# Altium schematic symbol library shutdown_circuit.SchLib: 45 symbols (part 2 of 3)
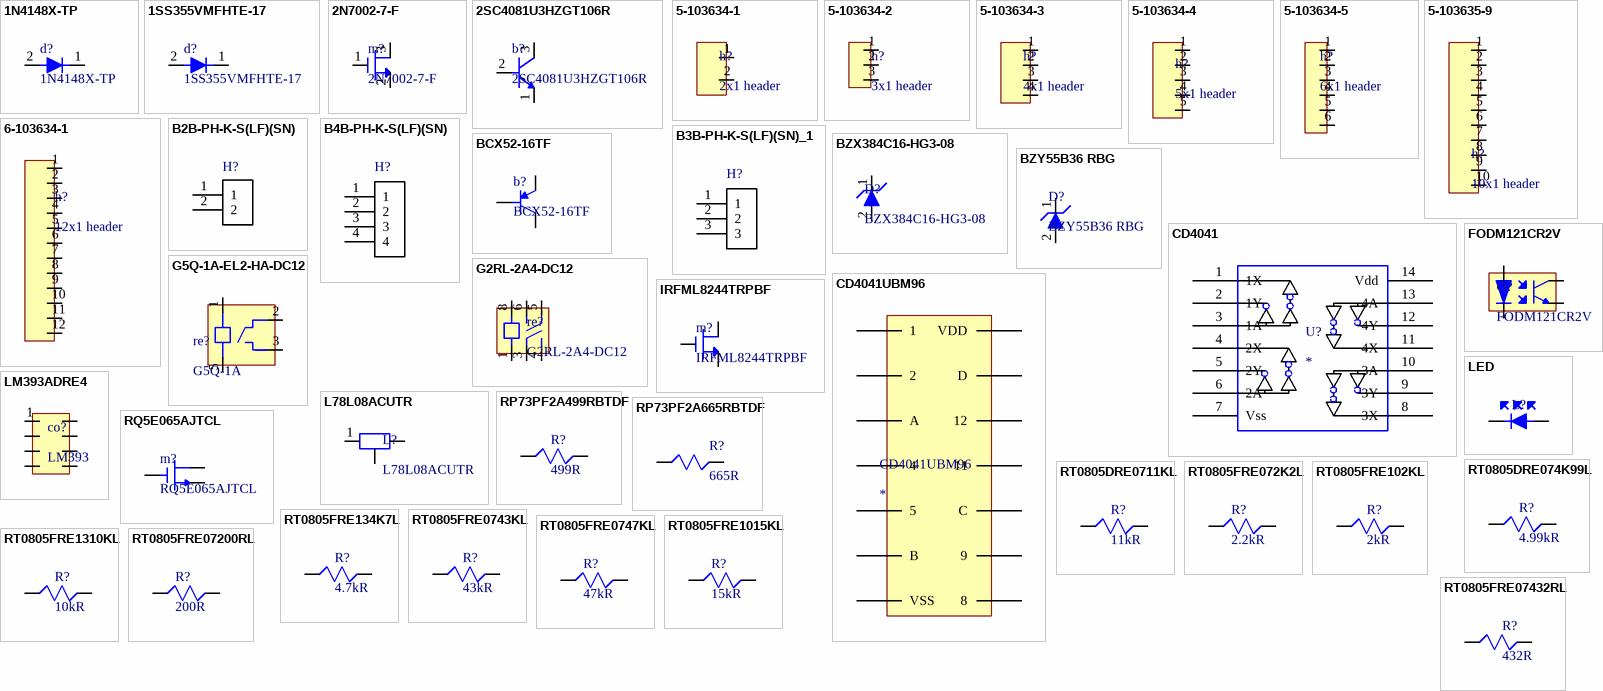
[diagram p2: symbols 1N4148X-TP to RT0805FRE07432RL]

## CD4041UBM96
designator CD4041UBM96
Buffer 4-CH Inverting/Non-Inverting Push-Pull CMOS 14-Pin SOIC-14 Tube; Manufacturer: Texas Instruments; Manufacturer Part Number: CD4041UBPW; Max Supply Voltage: 18V; Min Supply Voltage: 3V; Propagation Delay: 50ns; Number of Elements: 4; Low Level Output Current: 24mA; Number of Output Lines: 8; Number of Bits per Element: 1; High Level Output Current: -24mA; Quiescent Current: 20uA; Turn-On Delay Time: 120ns; Max Power Dissipation: 100mW; Mount: Surface Mount; Case/Package: TSSOP; Number of Pins: 14; Contact Plating: Gold; Min Operating Temperature: -55°C; Max Operating Temperature: 125°C; Packaging: Rail/Tube; Logic Function: Buffer; Package Quantity: 90; Number of Channels: 4; Number of Inputs: 4; Number of Outputs: 4; Number of Input Lines: 4; Polarity: Non-Inverting; Number of Bits: 4; Termination: SMD/SMT; Lead Free: Lead Free; REACH SVHC: No SVHC; ComponentLink1URL: https://datasheet.ciiva.com/1506/1762971-1506275.pdf?src-supplier=Element14; ComponentLink1Description: https://datasheet.ciiva.com/1506/1762971-1506275.pdf?src-supplier=Element14; ComponentLink2URL: https://datasheet.ciiva.com/46618/1836516-46618790.pdf?src-supplier=Newark; ComponentLink2Description: https://datasheet.ciiva.com/46618/1836516-46618790.pdf?src-supplier=Newark; ComponentLink3URL: https://datasheet.ciiva.com/1842/cd4041ub-1842824.pdf?src-supplier=Digi-Key; ComponentLink3Description: https://datasheet.ciiva.com/1842/cd4041ub-1842824.pdf?src-supplier=Digi-Key; ComponentLink4URL: https://octopart.com/click/track?ai=10049&ct=datasheets&sig=04d6427&at=physicalpart&sid=370&ppid=7097409&hlid=29930956&src-supplier=TI+store; ComponentLink4Description: https://octopart.com/click/track?ai=10049&ct=datasheets&sig=04d6427&at=physicalpart&sid=370&ppid=7097409&hlid=29930956&src-supplier=TI+store; ComponentLink5URL: http://datasheet.octopart.com/CD4041UBPW-Texas-Instruments-datasheet-10255163.pdf?src-supplier=Arrow+Electronics; ComponentLink5Description: http://datasheet.octopart.com/CD4041UBPW-Texas-Instruments-datasheet-10255163.pdf?src-supplier=Arrow+Electronics; ComponentLink6URL: http://datasheet.octopart.com/CD4041UBPW-Texas-Instruments-datasheet-27908145.pdf?src-supplier=TI+store; ComponentLink6Description: http://datasheet.octopart.com/CD4041UBPW-Texas-Instruments-datasheet-27908145.pdf?src-supplier=TI+store; ComponentLink7URL: http://datasheet.octopart.com/CD4041UBPW-Texas-Instruments-datasheet-149741.pdf?src-supplier=TI+store; ComponentLink7Description: http://datasheet.octopart.com/CD4041UBPW-Texas-Instruments-datasheet-149741.pdf?src-supplier=TI+store; ComponentLink8URL: http://datasheet.octopart.com/CD4041UBPW-Texas-Instruments-datasheet-10253518.pdf?src-supplier=TI+store; ComponentLink8Description: http://datasheet.octopart.com/CD4041UBPW-Texas-Instruments-datasheet-10253518.pdf?src-supplier=TI+store; ComponentLink9URL: http://sigma.octopart.com/49249819/technical_drawing/Texas-Instruments-CD4041UBPW.pdf?src-supplier=TI+store; ComponentLink9Description: http://sigma.octopart.com/49249819/technical_drawing/Texas-Instruments-CD4041UBPW.pdf?src-supplier=TI+store; ComponentLink10URL: http://datasheet.octopart.com/CD4041UBPW-Texas-Instruments-datasheet-8377696.pdf?src-supplier=Newark; ComponentLink10Description: http://datasheet.octopart.com/CD4041UBPW-Texas-Instruments-datasheet-8377696.pdf?src-supplier=Newark; ComponentLink11URL: http://datasheet.octopart.com/CD4041UBPW-Texas-Instruments-datasheet-654559.pdf?src-supplier=Newark; ComponentLink11Description: http://datasheet.octopart.com/CD4041UBPW-Texas-Instruments-datasheet-654559.pdf?src-supplier=Newark; ComponentLink12URL: http://datasheet.octopart.com/CD4041UBPW-Texas-Instruments-datasheet-8816533.pdf?src-supplier=Newark; ComponentLink12Description: http://datasheet.octopart.com/CD4041UBPW-Texas-Instruments-datasheet-8816533.pdf?src-supplier=Newark; ComponentLink13URL: http://datasheet.octopart.com/CD4041UBPW-Texas-Instruments-datasheet-11538150.pdf?src-supplier=Element14; ComponentLink13Description: http://datasheet.octopart.com/CD4041UBPW-Texas-Instruments-datasheet-11538150.pdf?src-supplier=Element14; ComponentLink14URL: http://datasheet.octopart.com/CD4041UBPW-Texas-Instruments-datasheet-21076600.pdf?src-supplier=Element14; ComponentLink14Description: http://datasheet.octopart.com/CD4041UBPW-Texas-Instruments-datasheet-21076600.pdf?src-supplier=Element14; ComponentLink15URL: http://datasheet.octopart.com/CD4041UBPW-Texas-Instruments-datasheet-47642687.pdf?src-supplier=Newark; ComponentLink15Description: http://datasheet.octopart.com/CD4041UBPW-Texas-Instruments-datasheet-47642687.pdf?src-supplier=Newark; ComponentLink16URL: http://datasheet.octopart.com/CD4041UBPW-Texas-Instruments-datasheet-102487265.pdf?src-supplier=Newark; ComponentLink16Description: http://datasheet.octopart.com/CD4041UBPW-Texas-Instruments-datasheet-102487265.pdf?src-supplier=Newark; Category: buffer; Supplier 1: Mouser; Supplier Part Number 1: 595-CD4041UBM96G4
footprint SOIC127P600X175-14N
pins: 1, 2, 3 A, 4, 5, 6 B, 7 VSS, 8, 9, 10 C, 11, 12, 13 D, 14 VDD

## FODM121CR2V
designator O?
Optocoupler DC-IN 1-CH Transistor DC-OUT 4-Pin Mini-Flat T/R; Manufacturer: ON Semiconductor; Number of Channels: 1; Collector Emitter Voltage (VCEO): 80V; Reverse Breakdown Voltage: 6V; Forward Voltage: 1.3V; Forward Current: 50mA; Max Power Dissipation: 150mW; Output Current per Channel: 80mA; Collector Emitter Saturation Voltage: 400mV; Current Transfer Ratio: 200%; catogory: optotransister; Supplier 1: Mouser; Supplier Part Number 1: 512-FODM121CR2V; Manufacturer Part Number: FODM121CR2V; Stock 1: 2249; Pricing 1: 1 = 0.58000, 10 = 0.48900, 100 = 0.29800, 1000 = 0.23000, 2500 = 0.19600, 10000 = 0.18200 (USD); Mount: Surface Mount; Case/Package: SMD/SMT; Number of Pins: 4; Contact Plating: Tin; Min Operating Temperature: -40°C; Max Operating Temperature: 110°C; Package Quantity: 2500; Packaging: Tape and Reel; Output Voltage: 80V; Max Output Voltage: 80V; Max Collector Current: 80mA; Number of Elements: 1; Power Dissipation: 150mW; Max Input Current: 50mA; ComponentLink1URL: https://datasheet.ciiva.com/2087/fodm121-2087249.pdf?src-supplier=Digi-Key; ComponentLink1Description: https://datasheet.ciiva.com/2087/fodm121-2087249.pdf?src-supplier=Digi-Key; ComponentLink2URL: https://datasheet.ciiva.com/8095/fodm2705-8095301.pdf?src-supplier=Avnet; ComponentLink2Description: https://datasheet.ciiva.com/8095/fodm2705-8095301.pdf?src-supplier=Avnet; ComponentLink3URL: http://datasheet.octopart.com/FODM121CR2V-ON-Semiconductor-datasheet-86695411.pdf?src-supplier=ON+Semiconductor; ComponentLink3Description: http://datasheet.octopart.com/FODM121CR2V-ON-Semiconductor-datasheet-86695411.pdf?src-supplier=ON+Semiconductor; ComponentLink4URL: http://datasheet.octopart.com/FODM121CR2V-Fairchild-Semiconductor-datasheet-11631601.pdf?src-supplier=_legacy+Avnet; ComponentLink4Description: http://datasheet.octopart.com/FODM121CR2V-Fairchild-Semiconductor-datasheet-11631601.pdf?src-supplier=_legacy+Avnet
footprint FODM121CR2V
pins: 1 7, 2 8, 3 9, 4 6

## G2RL-2A4-DC12
designator re?
Power Relay 12VDC 8A DPST-NO( (29mm 12.7mm 15.7mm)) THT; Manufacturer: Omron; Max Voltage Rating (AC): 440V; Max Voltage Rating (DC): 300V; Throw Configuration: DPST; Coil Resistance: 360R; Coil Current: 33.3mA; Coil Voltage (DC): 12V; Power Consumption: 400mW; Operate Time: 15ms; Coil Type: Non-Latching; Relay Type: General Purpose; Release Time: 5ms; Supplier 1: Mouser; Supplier Part Number 1: 653-G2RL-2A4-DC12; Manufacturer Part Number: G2RL-2A4-DC12; Stock 1: 117; Pricing 1: 1 = 4.17000, 25 = 3.46000, 50 = 3.30000, 100 = 3.13000, 200 = 2.82000, 500 = 2.82000 (USD); Mount: Through Hole; Case/Package: DIP; Number of Pins: 6; Weight: 12g; Contact Material: Silver; Min Operating Temperature: -40°C; Max Operating Temperature: 85°C; Packaging: Bulk; Max Current Rating: 8A; Package Quantity: 20; Contact Current Rating: 8A; Termination: PC Pin; Coil Power: 400mW; Length: 29mm; Height: 15.7mm; Width: 12.7mm; Radiation Hardening: No; ComponentLink1URL: https://datasheet.ciiva.com/43511/en-g2rl-43511039.pdf?src-supplier=Onlinecomponents.com; ComponentLink1Description: https://datasheet.ciiva.com/43511/en-g2rl-43511039.pdf?src-supplier=Onlinecomponents.com; ComponentLink2URL: https://datasheet.ciiva.com/5236/g2rl-0911-5236343.pdf?src-supplier=Mouser; ComponentLink2Description: https://datasheet.ciiva.com/5236/g2rl-0911-5236343.pdf?src-supplier=Mouser; ComponentLink3URL: https://datasheet.ciiva.com/8687/g2rl-0911-8687997.pdf?src-supplier=Avnet; ComponentLink3Description: https://datasheet.ciiva.com/8687/g2rl-0911-8687997.pdf?src-supplier=Avnet; ComponentLink4URL: http://datasheet.octopart.com/G2RL-2A4-DC12-Omron-datasheet-10910117.pdf?src-supplier=Electro+Sonic; ComponentLink4Description: http://datasheet.octopart.com/G2RL-2A4-DC12-Omron-datasheet-10910117.pdf?src-supplier=Electro+Sonic; ComponentLink5URL: http://datasheet.octopart.com/G2RL-2A4-DC12-Omron-datasheet-16972895.pdf?src-supplier=Sager+Electronics; ComponentLink5Description: http://datasheet.octopart.com/G2RL-2A4-DC12-Omron-datasheet-16972895.pdf?src-supplier=Sager+Electronics; catagory: relay
footprint G2RL-2A4-DC12
pins: 1 122, 3 119, 4 120, 5 118, 6 117, 8 121

## G5Q-1A-EL2-HA-DC12
designator re?, comment G5Q-1A
Power Relay 12VDC 10A SPST-NO(20.3mm 10.3mm 16.2mm) THT; Manufacturer: Omron; Manufacturer Part Number: G5Q-1A-EL2-HA-DC12; Coil Current: 16.7mA; Coil Power: 200mW; Coil Resistance: 720R; Relay Type: General Purpose; Coil Type: Non-Latching; Coil Voltage (DC): 12V; Operate Time: 10ms; Release Time: 5ms; Supplier 1: Mouser; Supplier Part Number 1: 653-G5Q1AEL2HADC12; Stock 1: 714; Pricing 1: 1 = 1.49000, 10 = 1.33000, 25 = 1.19000, 50 = 1.14000, 100 = 1.08000, 250 = 1.00000 (USD); Mount: Through Hole; Contact Material: Silver; Min Operating Temperature: -40°C; Max Operating Temperature: 85°C; Package Quantity: 400; Packaging: Rail/Tube; Throw Configuration: SPST-NO; Termination: PC Pin; Contact Current Rating: 10A; ComponentLink1URL: https://media.digikey.com/pdf/Data%20Sheets/Omron%20PDFs/G5Q-1A-EL2-HA_Spec.pdf?src-supplier=Digi-Key; ComponentLink1Description: https://media.digikey.com/pdf/Data%20Sheets/Omron%20PDFs/G5Q-1A-EL2-HA_Spec.pdf?src-supplier=Digi-Key; ComponentLink2URL: http://datasheet.octopart.com/G5Q-1A-EL2-HA-DC12-Omron-datasheet-82509156.pdf?src-supplier=Farnell; ComponentLink2Description: http://datasheet.octopart.com/G5Q-1A-EL2-HA-DC12-Omron-datasheet-82509156.pdf?src-supplier=Farnell; ComponentLink3URL: http://datasheet.octopart.com/G5Q-1A-EL2-HADC12-Omron-datasheet-21210708.pdf?src-supplier=Sager+Electronics; ComponentLink3Description: http://datasheet.octopart.com/G5Q-1A-EL2-HADC12-Omron-datasheet-21210708.pdf?src-supplier=Sager+Electronics; catogory: relay
footprint G5Q-1A-EL2-HA-DC12
pins: 1 10, 2 12, 3 13, 5 11

## IRFML8244TRPBF
designator m?
In a Pack of 20, N-Channel MOSFET, 5.8 A, 25 V, 3-Pin SOT-23 Infineon IRFML8244TRPBF; Drain to Source Voltage (Vdss): 25V; Continuous Drain Current (ID): 5.8A; Rds On Max: 24mR; Input Capacitance: 430pF; Max Power Dissipation: 1.25W; Threshold Voltage: 1.7V; catagory: nmos; Supplier 1: Mouser; Supplier Part Number 1: 942-IRFML8244TRPBF; Manufacturer: Infineon; Manufacturer Part Number: IRFML8244TRPBF; Stock 1: 31751; Pricing 1: 1 = 0.34000, 10 = 0.26600, 100 = 0.14400, 1000 = 0.10800, 3000 = 0.09300, 9000 = 0.08700 (USD); Mount: Surface Mount; Case/Package: SOT-23; Number of Pins: 3; Min Operating Temperature: -55°C; Max Operating Temperature: 150°C; Packaging: Tape and Reel; REACH SVHC: No SVHC; ComponentLink1URL: http://www.farnell.com/datasheets/1911843.pdf?src-supplier=Farnell; ComponentLink1Description: http://www.farnell.com/datasheets/1911843.pdf?src-supplier=Farnell; ComponentLink2URL: https://www.mouser.com/ds/2/196/irfml8244pbf-1227408.pdf?src-supplier=Mouser; ComponentLink2Description: https://www.mouser.com/ds/2/196/irfml8244pbf-1227408.pdf?src-supplier=Mouser; ComponentLink3URL: http://www.farnell.com/datasheets/1911843.pdf?src-supplier=Element14; ComponentLink3Description: http://www.farnell.com/datasheets/1911843.pdf?src-supplier=Element14; ComponentLink4URL: http://www.infineon.com/dgdl/irfml8244pbf.pdf?fileId=5546d462533600a40153562817c91fc0&src-supplier=Digi-Key; ComponentLink4Description: http://www.infineon.com/dgdl/irfml8244pbf.pdf?fileId=5546d462533600a40153562817c91fc0&src-supplier=Digi-Key; ComponentLink5URL: http://www.farnell.com/datasheets/1911843.pdf?src-supplier=Newark; ComponentLink5Description: http://www.farnell.com/datasheets/1911843.pdf?src-supplier=Newark; ComponentLink6URL: https://www.infineon.com/dgdl/irfml8244pbf.pdf?fileId=5546d462533600a40153562817c91fc0&src-supplier=Digi-Key; ComponentLink6Description: https://www.infineon.com/dgdl/irfml8244pbf.pdf?fileId=5546d462533600a40153562817c91fc0&src-supplier=Digi-Key; ComponentLink7URL: http://datasheet.octopart.com/IRFML8244TRPBF-Infineon-datasheet-10898597.pdf?src-supplier=Newark; ComponentLink7Description: http://datasheet.octopart.com/IRFML8244TRPBF-Infineon-datasheet-10898597.pdf?src-supplier=Newark; ComponentLink8URL: http://datasheet.octopart.com/IRFML8244TRPBF-Infineon-datasheet-10030581.pdf?src-supplier=Element14; ComponentLink8Description: http://datasheet.octopart.com/IRFML8244TRPBF-Infineon-datasheet-10030581.pdf?src-supplier=Element14; ComponentLink9URL: http://datasheet.octopart.com/IRFML8244TRPBF-Infineon-datasheet-8327460.pdf?src-supplier=Allied+Electronics; ComponentLink9Description: http://datasheet.octopart.com/IRFML8244TRPBF-Infineon-datasheet-8327460.pdf?src-supplier=Allied+Electronics; ComponentLink10URL: http://datasheet.octopart.com/IRFML8244TRPBF-International-Rectifier-datasheet-14062075.pdf?src-supplier=IIIC; ComponentLink10Description: http://datasheet.octopart.com/IRFML8244TRPBF-International-Rectifier-datasheet-14062075.pdf?src-supplier=IIIC
footprint IRFML8244TRPBF
pins: 1 54, 2 56, 3 55

## L78L08ACUTR
designator L?
L78L Series 100 mA 8 V Three Terminal Positive Voltage LDO Regulator - SOT-89; Manufacturer: STMicroelectronics; Dropout Voltage: 1.7V; Max Input Voltage: 30V; Max Output Current: 100mA; Number of Outputs: 1; Output Voltage: 8V; Min Input Voltage: 10V; Quiescent Current: 6mA; Accuracy: 4%; Power Supply Rejection Ratio (PSRR): 45dB; Output Type: Fixed; Supplier 1: Mouser; Supplier Part Number 1: 511-L78L08ACU-TR; Manufacturer Part Number: L78L08ACUTR; Stock 1: 4019; Pricing 1: 1 = 0.41000, 10 = 0.33400, 100 = 0.20400, 1000 = 0.15800, 2500 = 0.13400, 10000 = 0.12500 (USD); Mount: Surface Mount; Case/Package: SOT-89; Number of Pins: 3; Min Operating Temperature: 0°C; Max Operating Temperature: 125°C; Package Quantity: 1; Packaging: Tape and Reel; Output Current: 100mA; Number of Regulators: 1; Polarity: Positive; Min Output Voltage: 8V; Output Voltage Accuracy: 4%; Radiation Hardening: No; Lead Free: Lead Free; ComponentLink1URL: https://datasheet.ciiva.com/2041/cd00000446-2041953.pdf?src-supplier=Digi-Key; ComponentLink1Description: https://datasheet.ciiva.com/2041/cd00000446-2041953.pdf?src-supplier=Digi-Key; ComponentLink2URL: https://datasheet.ciiva.com/2041/cd00000446-2041954.pdf?src-supplier=Digi-Key; ComponentLink2Description: https://datasheet.ciiva.com/2041/cd00000446-2041954.pdf?src-supplier=Digi-Key; ComponentLink3URL: https://datasheet.ciiva.com/2041/cd00000446-2041955.pdf?src-supplier=Digi-Key; ComponentLink3Description: https://datasheet.ciiva.com/2041/cd00000446-2041955.pdf?src-supplier=Digi-Key; ComponentLink4URL: https://datasheet.ciiva.com/4881/cd00000446-4881896.pdf?src-supplier=Mouser; ComponentLink4Description: https://datasheet.ciiva.com/4881/cd00000446-4881896.pdf?src-supplier=Mouser; ComponentLink5URL: https://datasheet.ciiva.com/8229/cd00000446-8229481.pdf?src-supplier=Avnet; ComponentLink5Description: https://datasheet.ciiva.com/8229/cd00000446-8229481.pdf?src-supplier=Avnet; ComponentLink6URL: https://datasheet.ciiva.com/41440/001185760-da-01-en-ic-reg-ldo-8v-0-l78l08acutr-sot-89-3-stm-41440636.pdf?src-supplier=Conrad; ComponentLink6Description: https://datasheet.ciiva.com/41440/001185760-da-01-en-ic-reg-ldo-8v-0-l78l08acutr-sot-89-3-stm-41440636.pdf?src-supplier=Conrad; ComponentLink7URL: http://datasheet.octopart.com/L78L08ACUTR-STMicroelectronics-datasheet-10835880.pdf?src-supplier=Components+Direct; ComponentLink7Description: http://datasheet.octopart.com/L78L08ACUTR-STMicroelectronics-datasheet-10835880.pdf?src-supplier=Components+Direct; ComponentLink8URL: http://datasheet.octopart.com/L78L08ACUTR-STMicroelectronics-datasheet-5313475.pdf?src-supplier=STMicroelectronics; ComponentLink8Description: http://datasheet.octopart.com/L78L08ACUTR-STMicroelectronics-datasheet-5313475.pdf?src-supplier=STMicroelectronics; ComponentLink9URL: http://datasheet.octopart.com/L78L08ACUTR-STMicroelectronics-datasheet-10404867.pdf?src-supplier=STMicroelectronics; ComponentLink9Description: http://datasheet.octopart.com/L78L08ACUTR-STMicroelectronics-datasheet-10404867.pdf?src-supplier=STMicroelectronics; ComponentLink10URL: http://datasheet.octopart.com/L78L08ACUTR-STMicroelectronics-datasheet-12512320.pdf?src-supplier=STMicroelectronics; ComponentLink10Description: http://datasheet.octopart.com/L78L08ACUTR-STMicroelectronics-datasheet-12512320.pdf?src-supplier=STMicroelectronics; ComponentLink11URL: http://datasheet.octopart.com/L78L08ACUTR-STMicroelectronics-datasheet-62333153.pdf?src-supplier=STMicroelectronics; ComponentLink11Description: http://datasheet.octopart.com/L78L08ACUTR-STMicroelectronics-datasheet-62333153.pdf?src-supplier=STMicroelectronics; ComponentLink12URL: http://datasheet.octopart.com/L78L08ACUTR-STMicroelectronics-datasheet-66334026.pdf?src-supplier=Element14; ComponentLink12Description: http://datasheet.octopart.com/L78L08ACUTR-STMicroelectronics-datasheet-66334026.pdf?src-supplier=Element14; ComponentLink13URL: http://datasheet.octopart.com/L78L08ACUTR-STMicroelectronics-datasheet-113918.pdf?src-supplier=Sierra+IC; ComponentLink13Description: http://datasheet.octopart.com/L78L08ACUTR-STMicroelectronics-datasheet-113918.pdf?src-supplier=Sierra+IC; ComponentLink14URL: http://datasheet.octopart.com/L78L08ACUTR-STMicroelectronics-datasheet-14169683.pdf?src-supplier=IIIC; ComponentLink14Description: http://datasheet.octopart.com/L78L08ACUTR-STMicroelectronics-datasheet-14169683.pdf?src-supplier=IIIC; catagory: LDO
footprint L78L08ACUTR (SOT89, 3-Leads, Body 4.50x2.45mm, Pitch 1.50mm, Lead Span 4.1mm, IPC Medium Density)
pins: 1 56, 2 57, 3 55

## LED
designator L?  (value not drawn)
pins: 1 71, 2 70

## LM393ADRE4
designator co?, comment LM393
Precision dual differential comparator, industrial grade 8-SOIC 0 to 70; Manufacturer: Texas Instruments; Manufacturer Part Number: LM393ADRE4; Max Supply Voltage: 36V; Min Supply Voltage: 2V; Nominal Supply Current: 1mA; Min Dual Supply Voltage: 1V; Max Dual Supply Voltage: 18V; Voltage Gain: 106.02dB; Input Bias Current: 250nA; Number of Channels: 2; Output Current per Channel: 6mA; Input Offset Voltage (Vos): 2mV; Response Time: 1.3us; Supplier 1: Mouser; Supplier Part Number 1: 595-LM393ADRE4; Stock 1: 2142; Pricing 1: 1 = 0.35000, 10 = 0.26600, 100 = 0.14400, 1000 = 0.10800, 2500 = 0.09300, 10000 = 0.08700, 22500 = 0.08000, 50000 = 0.07700, 100000 = 0.07400 (USD); Mount: Surface Mount; Case/Package: SOIC; Number of Pins: 8; Weight: 0.002561oz; Min Operating Temperature: 0°C; Max Operating Temperature: 70°C; Package Quantity: 2500; Packaging: Tape and Reel; Max Supply Current: 1mA; Number of Elements: 2; Output Current: 6mA; Radiation Hardening: No; Lead Free: Lead Free; ComponentLink1URL: https://datasheet.ciiva.com/2971/lm2903-2971930.pdf?src-supplier=Avnet; ComponentLink1Description: https://datasheet.ciiva.com/2971/lm2903-2971930.pdf?src-supplier=Avnet; ComponentLink2URL: https://octopart.com/click/track?ai=8629&ct=datasheets&sig=0f2f039&at=physicalpart&sid=370&ppid=2351634&hlid=24889383&src-supplier=TI+store; ComponentLink2Description: https://octopart.com/click/track?ai=8629&ct=datasheets&sig=0f2f039&at=physicalpart&sid=370&ppid=2351634&hlid=24889383&src-supplier=TI+store; ComponentLink3URL: http://datasheet.octopart.com/LM393ADRE4-Texas-Instruments-datasheet-149842.pdf?src-supplier=Mouser; ComponentLink3Description: http://datasheet.octopart.com/LM393ADRE4-Texas-Instruments-datasheet-149842.pdf?src-supplier=Mouser; ComponentLink4URL: http://datasheet.octopart.com/LM393ADRE4-Texas-Instruments-datasheet-10770944.pdf?src-supplier=TI+store; ComponentLink4Description: http://datasheet.octopart.com/LM393ADRE4-Texas-Instruments-datasheet-10770944.pdf?src-supplier=TI+store; ComponentLink5URL: http://datasheet.octopart.com/LM393ADRE4-Texas-Instruments-datasheet-22122192.pdf?src-supplier=TI+store; ComponentLink5Description: http://datasheet.octopart.com/LM393ADRE4-Texas-Instruments-datasheet-22122192.pdf?src-supplier=TI+store; ComponentLink6URL: http://datasheet.octopart.com/LM393ADRE4-Texas-Instruments-datasheet-41204855.pdf?src-supplier=TI+store; ComponentLink6Description: http://datasheet.octopart.com/LM393ADRE4-Texas-Instruments-datasheet-41204855.pdf?src-supplier=TI+store; ComponentLink7URL: http://sigma.octopart.com/49249642/technical_drawing/Texas-Instruments-LM393ADRE4.pdf?src-supplier=TI+store; ComponentLink7Description: http://sigma.octopart.com/49249642/technical_drawing/Texas-Instruments-LM393ADRE4.pdf?src-supplier=TI+store; ComponentLink8URL: http://datasheet.octopart.com/LM393ADRE4-Texas-Instruments-datasheet-11539018.pdf?src-supplier=Arrow; ComponentLink8Description: http://datasheet.octopart.com/LM393ADRE4-Texas-Instruments-datasheet-11539018.pdf?src-supplier=Arrow; ComponentLink9URL: http://datasheet.octopart.com/LM393ADRE4-Texas-Instruments-datasheet-21220619.pdf?src-supplier=Newark; ComponentLink9Description: http://datasheet.octopart.com/LM393ADRE4-Texas-Instruments-datasheet-21220619.pdf?src-supplier=Newark; ComponentLink10URL: http://datasheet.octopart.com/LM393ADRE4-Texas-Instruments-datasheet-62088724.pdf?src-supplier=Newark; ComponentLink10Description: http://datasheet.octopart.com/LM393ADRE4-Texas-Instruments-datasheet-62088724.pdf?src-supplier=Newark; ComponentLink11URL: http://datasheet.octopart.com/LM393ADRE4-Texas-Instruments-datasheet-65569680.pdf?src-supplier=Newark; ComponentLink11Description: http://datasheet.octopart.com/LM393ADRE4-Texas-Instruments-datasheet-65569680.pdf?src-supplier=Newark; catagory: comparator
footprint LM393ADRE4
pins: 1 37, 2 38, 3 39, 4 40, 5 44, 6 43, 7 42, 8 41

## RP73PF2A499RBTDF
designator R?, comment 499R
Res Thin Film 0805 499 Ohm 0.1% 1/8W ±25ppm/°C Molded SMD Paper T/R; Manufacturer: TE Connectivity; Manufacturer Part Number: RP73PF2A499RBTDF; Power Rating: 250mW; Voltage Rating: 150V; catagory: resister; Supplier 1: Mouser; Supplier Part Number 1: 279-8-2176091-9; Stock 1: 1990; Pricing 1: 1 = 0.36000, 10 = 0.33400, 100 = 0.25600, 500 = 0.22300, 1000 = 0.18400, 2000 = 0.16800, 10000 = 0.14200, 25000 = 0.13700, 50000 = 0.13200 (USD); Case/Package: 0805; Case Code (Metric): 2012; Case Code (Imperial): 0805; Min Operating Temperature: -55°C; Max Operating Temperature: 155°C; Tolerance: 0.1%; Resistance: 499R; Packaging: Cut Tape; Composition: Thin Film; Termination: SMD/SMT; Temperature Coefficient: 25ppm/°C; Voltage Rating (DC): 150V; Length: 2mm; Height: 0.55mm; Depth: 1.25mm; REACH SVHC: No SVHC; ComponentLink1URL: https://datasheet.ciiva.com/46392/1635325-46392937.pdf?src-supplier=Element14; ComponentLink1Description: https://datasheet.ciiva.com/46392/1635325-46392937.pdf?src-supplier=Element14; ComponentLink2URL: http://datasheet.octopart.com/8-2176091-9-TE-Connectivity-datasheet-97102182.pdf?src-supplier=Electro+Sonic; ComponentLink2Description: http://datasheet.octopart.com/8-2176091-9-TE-Connectivity-datasheet-97102182.pdf?src-supplier=Electro+Sonic; ComponentLink3URL: http://datasheet.octopart.com/RP73PF2A499RBTDF-TE-Connectivity-datasheet-11516962.pdf?src-supplier=Element14; ComponentLink3Description: http://datasheet.octopart.com/RP73PF2A499RBTDF-TE-Connectivity-datasheet-11516962.pdf?src-supplier=Element14; ComponentLink4URL: http://datasheet.octopart.com/RP73PF2A499RBTDF-Tyco-Electronics-datasheet-11120217.pdf?src-supplier=Farnell; ComponentLink4Description: http://datasheet.octopart.com/RP73PF2A499RBTDF-Tyco-Electronics-datasheet-11120217.pdf?src-supplier=Farnell
footprint 665R,499R
pins: 1 83, 2 84

## RP73PF2A665RBTDF
designator R?, comment 665R
Res Thin Film 0805 665 Ohm 0.1% 1/8W ±25ppm/°C Molded SMD Paper T/R; Manufacturer: TE Connectivity; Manufacturer Part Number: RP73PF2A665RBTDF; Power Rating: 250mW; Voltage Rating: 150V; catagory: resister; Supplier 1: Mouser; Supplier Part Number 1: 279-RP73PF2A665RBTDF; Stock 1: 1934; Pricing 1: 1 = 0.36000, 10 = 0.33400, 100 = 0.25600, 500 = 0.22300, 1000 = 0.18400, 2000 = 0.16800 (USD); Case/Package: 0805; Case Code (Metric): 2012; Case Code (Imperial): 0805; Min Operating Temperature: -55°C; Max Operating Temperature: 155°C; Resistance: 665R; Tolerance: 0.1%; Packaging: Cut Tape; Composition: Thin Film; Termination: Flat; Temperature Coefficient: 25ppm/°C; Voltage Rating (DC): 150V; Length: 2mm; Height: 0.55mm; Depth: 1.25mm; REACH SVHC: No SVHC; ComponentLink1URL: https://datasheet.ciiva.com/46393/1635325-46393238.pdf?src-supplier=Element14; ComponentLink1Description: https://datasheet.ciiva.com/46393/1635325-46393238.pdf?src-supplier=Element14; ComponentLink2URL: https://datasheet.ciiva.com/7863/1635325-7863032.pdf?src-supplier=Element14; ComponentLink2Description: https://datasheet.ciiva.com/7863/1635325-7863032.pdf?src-supplier=Element14; ComponentLink3URL: http://datasheet.octopart.com/2176092-2-TE-Connectivity-datasheet-97102182.pdf?src-supplier=TE+Connectivity; ComponentLink3Description: http://datasheet.octopart.com/2176092-2-TE-Connectivity-datasheet-97102182.pdf?src-supplier=TE+Connectivity; ComponentLink4URL: http://datasheet.octopart.com/RP73PF2A665RBTDF-TE-Connectivity-datasheet-11516962.pdf?src-supplier=Element14; ComponentLink4Description: http://datasheet.octopart.com/RP73PF2A665RBTDF-TE-Connectivity-datasheet-11516962.pdf?src-supplier=Element14; ComponentLink5URL: http://datasheet.octopart.com/RP73PF2A665RBTDF-Tyco-Electronics-datasheet-11120217.pdf?src-supplier=Farnell; ComponentLink5Description: http://datasheet.octopart.com/RP73PF2A665RBTDF-Tyco-Electronics-datasheet-11120217.pdf?src-supplier=Farnell
footprint 665R,499R
pins: 1 83, 2 84

## RQ5E065AJTCL
designator m?
In a Pack of 50, N-Channel MOSFET, 6.5 A, 30 V, 3-Pin SC-96, SOT-346T, TSMT ROHM RQ5E065AJTCL; catagory: nmos; Supplier 1: Mouser; Supplier Part Number 1: 755-RQ5E065AJTCL; Manufacturer: Rohm; Manufacturer Part Number: RQ5E065AJTCL; Stock 1: 2805; Pricing 1: 1 = 0.61000, 10 = 0.51400, 100 = 0.33200, 1000 = 0.26500, 3000 = 0.22400, 9000 = 0.21500 (USD)
footprint RQ5E065AJTCL
pins: 1 27, 2 29, 3 28

## RT0805DRE074K99L
designator R?, comment 4.99kR
Res Thin Film 0805 4.99K Ohm 0.5% 1/8W ±50ppm/°C Molded SMD Paper T/R; Manufacturer: Yageo; Manufacturer Part Number: RT0805DRE074K99L; Max Power Dissipation: 125mW; Voltage Rating (DC): 150V; catagory: resister; Supplier 1: Mouser; Supplier Part Number 1: 603-RT0805DRE074K99L; Stock 1: 12154; Pricing 1: 1 = 0.17000, 10 = 0.08800, 100 = 0.03100, 1000 = 0.02200, 5000 = 0.01500, 10000 = 0.01400 (USD); Case/Package: 0805; Case Code (Metric): 2012; Case Code (Imperial): 0805; Min Operating Temperature: -55°C; Max Operating Temperature: 155°C; Resistance: 4.99kR; Tolerance: 0.5%; Packaging: Tape and Reel; Package Quantity: 5000; Composition: Thin Film; Number of Terminations: 2; Military Standard: Not; Temperature Coefficient: 50ppm/°C; Features: Moisture Resistant; Length: 0.079inch; Height: 0.024inch; Width: 0.049inch; Depth: 1.25mm; Lead Free: Lead Free; ComponentLink1URL: https://datasheet.ciiva.com/2569/pyu-rt-1-to-0-05-rohs-l-5-2569530.pdf?src-supplier=Digi-Key; ComponentLink1Description: https://datasheet.ciiva.com/2569/pyu-rt-1-to-0-05-rohs-l-5-2569530.pdf?src-supplier=Digi-Key; ComponentLink2URL: http://datasheet.octopart.com/RT0805DRE074K99L-Yageo-datasheet-86813807.pdf; ComponentLink2Description: http://datasheet.octopart.com/RT0805DRE074K99L-Yageo-datasheet-86813807.pdf
footprint 4.99kR
pins: 1 83, 2 84

## RT0805DRE0711KL
designator R?, comment 11kR
Res High Precision Thin Film 0805 11k Ohm 0.5% 1/8W ±50ppm/°C Molded Paper T/R; Manufacturer: Yageo; Manufacturer Part Number: RT0805DRE0711KL; Max Power Dissipation: 125mW; Voltage Rating (DC): 150V; catagory: resister; Supplier 1: Mouser; Supplier Part Number 1: 603-RT0805DRE0711KL; Stock 1: 6290; Pricing 1: 1 = 0.17000, 10 = 0.08800, 100 = 0.03100, 1000 = 0.02200, 5000 = 0.01500, 10000 = 0.01400 (USD); Case/Package: 0805; Case Code (Metric): 2012; Case Code (Imperial): 0805; Min Operating Temperature: -55°C; Max Operating Temperature: 155°C; Package Quantity: 5000; Packaging: Tape and Reel; Resistance: 11kR; Tolerance: 0.5%; Composition: Thin Film; Number of Terminations: 2; Temperature Coefficient: 50ppm/°C; Features: Moisture Resistant; Length: 0.079inch; Height: 0.024inch; Width: 0.049inch; Lead Free: Lead Free; ComponentLink1URL: https://datasheet.ciiva.com/2569/pyu-rt-1-to-0-05-rohs-l-5-2569184.pdf?src-supplier=Digi-Key; ComponentLink1Description: https://datasheet.ciiva.com/2569/pyu-rt-1-to-0-05-rohs-l-5-2569184.pdf?src-supplier=Digi-Key; ComponentLink2URL: http://datasheet.octopart.com/RT0805DRE0711KL-Yageo-datasheet-86813807.pdf; ComponentLink2Description: http://datasheet.octopart.com/RT0805DRE0711KL-Yageo-datasheet-86813807.pdf
footprint 11kR
footprint Yageo 0805
pins: 1 83, 2 84

## RT0805FRE072K2L
designator R?, comment 2.2kR
High Precision-High Stability Chip Resistor Thin Film 0805 2.2kOhm 1% Paper T/R; Manufacturer: Yageo; Manufacturer Part Number: RT0805FRE072K2L; Power Rating: 125mW; Voltage Rating: 150V; Temperature Coefficient: 50ppm/°C; catagory: resister; Supplier 1: Mouser; Supplier Part Number 1: 603-RT0805FRE072K2L; Stock 1: 13426; Pricing 1: 1 = 0.12000, 10 = 0.06400, 100 = 0.02300, 1000 = 0.01600, 5000 = 0.01100, 10000 = 0.01000 (USD); Case/Package: 0805; Case Code (Imperial): 0805; Case Code (Metric): 2012; Min Operating Temperature: -55°C; Max Operating Temperature: 125°C; Resistance: 2.2kR; Tolerance: 1%; Packaging: Tape and Reel; Package Quantity: 5000; Composition: Thin Film; Termination: SMD/SMT; Number of Terminations: 2; Max Power Dissipation: 125mW; Voltage Rating (DC): 150V; Length: 0.079inch; Height: 0.024inch; Width: 1.25mm; REACH SVHC: Unknown; Lead Free: Lead Free; ComponentLink1URL: https://datasheet.ciiva.com/2561/pyu-rt-1-to-0-05-rohs-l-5-2561127.pdf?src-supplier=Digi-Key; ComponentLink1Description: https://datasheet.ciiva.com/2561/pyu-rt-1-to-0-05-rohs-l-5-2561127.pdf?src-supplier=Digi-Key; ComponentLink2URL: https://datasheet.ciiva.com/7942/1392914-7942125.pdf?src-supplier=Element14; ComponentLink2Description: https://datasheet.ciiva.com/7942/1392914-7942125.pdf?src-supplier=Element14; ComponentLink3URL: https://datasheet.ciiva.com/7942/1392914-7942126.pdf?src-supplier=Element14; ComponentLink3Description: https://datasheet.ciiva.com/7942/1392914-7942126.pdf?src-supplier=Element14; ComponentLink4URL: http://datasheet.octopart.com/RT0805FRE072K2L-Yageo-datasheet-136673517.pdf?src-supplier=Future+Electronics; ComponentLink4Description: http://datasheet.octopart.com/RT0805FRE072K2L-Yageo-datasheet-136673517.pdf?src-supplier=Future+Electronics; ComponentLink5URL: http://datasheet.octopart.com/RT0805FRE072K2L-Yageo-datasheet-137700930.pdf?src-supplier=Future+Electronics; ComponentLink5Description: http://datasheet.octopart.com/RT0805FRE072K2L-Yageo-datasheet-137700930.pdf?src-supplier=Future+Electronics; ComponentLink6URL: http://datasheet.octopart.com/RT0805FRE072K2L-Yageo-datasheet-67645616.pdf?src-supplier=Element14; ComponentLink6Description: http://datasheet.octopart.com/RT0805FRE072K2L-Yageo-datasheet-67645616.pdf?src-supplier=Element14; ComponentLink7URL: http://datasheet.octopart.com/RT0805FRE072K2L-Yageo-datasheet-8324589.pdf?src-supplier=Newark; ComponentLink7Description: http://datasheet.octopart.com/RT0805FRE072K2L-Yageo-datasheet-8324589.pdf?src-supplier=Newark; ComponentLink8URL: http://datasheet.octopart.com/RT0805FRE072K2L-Yageo-datasheet-10915759.pdf?src-supplier=Element14; ComponentLink8Description: http://datasheet.octopart.com/RT0805FRE072K2L-Yageo-datasheet-10915759.pdf?src-supplier=Element14; ComponentLink9URL: http://datasheet.octopart.com/RT0805FRE072K2L-Yageo-datasheet-41589729.pdf?src-supplier=Future+Electronics; ComponentLink9Description: http://datasheet.octopart.com/RT0805FRE072K2L-Yageo-datasheet-41589729.pdf?src-supplier=Future+Electronics; ComponentLink10URL: http://datasheet.octopart.com/RT0805FRE072K2L-Yageo-datasheet-68361100.pdf?src-supplier=Future+Electronics; ComponentLink10Description: http://datasheet.octopart.com/RT0805FRE072K2L-Yageo-datasheet-68361100.pdf?src-supplier=Future+Electronics; ComponentLink11URL: http://datasheet.octopart.com/RT0805FRE072K2L-Yageo-datasheet-83209228.pdf?src-supplier=Future+Electronics; ComponentLink11Description: http://datasheet.octopart.com/RT0805FRE072K2L-Yageo-datasheet-83209228.pdf?src-supplier=Future+Electronics; ComponentLink12URL: http://datasheet.octopart.com/RT0805FRE072K2L-Yageo-datasheet-86813807.pdf; ComponentLink12Description: http://datasheet.octopart.com/RT0805FRE072K2L-Yageo-datasheet-86813807.pdf; ComponentLink13URL: http://datasheet.octopart.com/RT0805FRE072K2L-Yageo-datasheet-96443642.pdf?src-supplier=Future+Electronics; ComponentLink13Description: http://datasheet.octopart.com/RT0805FRE072K2L-Yageo-datasheet-96443642.pdf?src-supplier=Future+Electronics
footprint Yageo 0805
pins: 1 83, 2 84

## RT0805FRE102KL
designator R?, comment 2kR
High Precision-High Stability Chip Resistor Thin Film 0805 2kOhm 1% Paper T/R; Manufacturer: Yageo; Manufacturer Part Number: RT0805FRE102KL; catagory: resister; Supplier 1: Mouser; Supplier Part Number 1: 603-RT0805FRE102KL; Stock 1: 14347; Pricing 1: 1 = 0.12000, 10 = 0.06400, 100 = 0.02300, 1000 = 0.01600, 2500 = 0.01100, 10000 = 0.01000 (USD); Case/Package: 0805; Resistance: 2kR; Tolerance: 1%; ComponentLink1URL: http://datasheet.octopart.com/RT0805FRE102KL-Yageo-datasheet-86813807.pdf; ComponentLink1Description: http://datasheet.octopart.com/RT0805FRE102KL-Yageo-datasheet-86813807.pdf
footprint 2kR
pins: 1 83, 2 84

## RT0805FRE134K7L
designator R?, comment 4.7kR
Res Thin Film 0805 4.7K Ohm 1% 1/8W ±50ppm/°C Molded SMD Paper T/R; Manufacturer: Yageo; Manufacturer Part Number: RT0805FRE134K7L; catagory: resister; Supplier 1: Mouser; Supplier Part Number 1: 603-RT0805FRE134K7L; Stock 1: 1550; Pricing 1: 1 = 0.12000, 10 = 0.06400, 100 = 0.02300, 1000 = 0.01600, 2500 = 0.01100, 10000 = 0.01000 (USD); Case/Package: 0805; Resistance: 4.7kR; Tolerance: 1%; ComponentLink1URL: http://datasheet.octopart.com/RT0805FRE134K7L-Yageo-datasheet-86813807.pdf; ComponentLink1Description: http://datasheet.octopart.com/RT0805FRE134K7L-Yageo-datasheet-86813807.pdf
footprint Yageo 0805
pins: 1 83, 2 84

## RT0805FRE0743KL
designator R?, comment 43kR
Res Thin Film 0805 43K Ohm 1% 1/8W ±50ppm/°C Molded SMD SMD Paper T/R; Manufacturer: Yageo; Manufacturer Part Number: RT0805FRE0743KL; Voltage Rating (DC): 150V; catagory: resister; Supplier 1: Mouser; Supplier Part Number 1: 603-RT0805FRE0743KL; Stock 1: 10459; Pricing 1: 1 = 0.12000, 10 = 0.06400, 100 = 0.02300, 1000 = 0.01600, 5000 = 0.01100, 10000 = 0.01000 (USD); Case/Package: 0805; Contact Plating: Tin; Min Operating Temperature: -55°C; Max Operating Temperature: 125°C; Resistance: 43kR; Tolerance: 1%; Packaging: Tape and Reel; Composition: Thin Film; Military Standard: Not; Temperature Coefficient: 50ppm/°C; Length: 2mm; Depth: 1.25mm; Width: 1.25mm; Radiation Hardening: No; Lead Free: Lead Free; ComponentLink1URL: https://datasheet.ciiva.com/8889/pyu-rt-1-to-0-05-rohs-l-4-8889279.pdf?src-supplier=Avnet; ComponentLink1Description: https://datasheet.ciiva.com/8889/pyu-rt-1-to-0-05-rohs-l-4-8889279.pdf?src-supplier=Avnet; ComponentLink2URL: http://datasheet.octopart.com/RT0805FRE0743KL-Yageo-datasheet-86813807.pdf; ComponentLink2Description: http://datasheet.octopart.com/RT0805FRE0743KL-Yageo-datasheet-86813807.pdf
footprint Yageo 0805
pins: 1 83, 2 84

## RT0805FRE0747KL
designator R?, comment 47kR
High Precision-High Stability Chip Resistor Thin Film 0805 47kOhm 1% Paper T/R; Manufacturer: Yageo; Manufacturer Part Number: RT0805FRE0747KL; Power Rating: 125mW; Voltage Rating: 150V; Temperature Coefficient: 50ppm/°C; catagory: resister; Supplier 1: Mouser; Supplier Part Number 1: 603-RT0805FRE0747KL; Stock 1: 10985; Pricing 1: 1 = 0.12000, 10 = 0.06400, 100 = 0.02300, 1000 = 0.01600, 5000 = 0.01100, 10000 = 0.01000 (USD); Case/Package: 0805; Number of Pins: 2; Case Code (Metric): 2012; Case Code (Imperial): 0805; Min Operating Temperature: -55°C; Max Operating Temperature: 125°C; Tolerance: 1%; Resistance: 47kR; Packaging: Tape and Reel; Composition: Thin Film; Termination: SMD/SMT; Package Quantity: 5000; Number of Terminations: 2; Military Standard: Not; Max Power Dissipation: 125mW; Voltage Rating (DC): 150V; Features: Moisture Resistant; Length: 0.079inch; Height: 0.024inch; Width: 0.049inch; Depth: 1.25mm; REACH SVHC: No SVHC; Lead Free: Lead Free; ComponentLink1URL: https://datasheet.ciiva.com/7942/1392914-7942152.pdf?src-supplier=Element14; ComponentLink1Description: https://datasheet.ciiva.com/7942/1392914-7942152.pdf?src-supplier=Element14; ComponentLink2URL: https://datasheet.ciiva.com/7942/1392914-7942153.pdf?src-supplier=Element14; ComponentLink2Description: https://datasheet.ciiva.com/7942/1392914-7942153.pdf?src-supplier=Element14; ComponentLink3URL: https://datasheet.ciiva.com/5990/1392914-5990606.pdf?src-supplier=Farnell; ComponentLink3Description: https://datasheet.ciiva.com/5990/1392914-5990606.pdf?src-supplier=Farnell; ComponentLink4URL: http://datasheet.octopart.com/RT0805FRE0747KL-Yageo-datasheet-86813807.pdf; ComponentLink4Description: http://datasheet.octopart.com/RT0805FRE0747KL-Yageo-datasheet-86813807.pdf; ComponentLink5URL: http://datasheet.octopart.com/RT0805FRE0747KL-Yageo-datasheet-8324589.pdf?src-supplier=Farnell; ComponentLink5Description: http://datasheet.octopart.com/RT0805FRE0747KL-Yageo-datasheet-8324589.pdf?src-supplier=Farnell; ComponentLink6URL: http://datasheet.octopart.com/RT0805FRE0747KL-Yageo-datasheet-10915759.pdf?src-supplier=Farnell; ComponentLink6Description: http://datasheet.octopart.com/RT0805FRE0747KL-Yageo-datasheet-10915759.pdf?src-supplier=Farnell
footprint Yageo 0805
pins: 1 83, 2 84

## RT0805FRE1015KL
designator R?, comment 15kR
Res Thin Film 0805 15K Ohm 1% 1/8W ±50ppm/°C Molded SMD Paper T/R; Manufacturer: Yageo; Manufacturer Part Number: RT0805FRE1015KL; catagory: resister; Supplier 1: Mouser; Supplier Part Number 1: 603-RT0805FRE1015KL; Stock 1: 13409; Pricing 1: 1 = 0.12000, 10 = 0.06400, 100 = 0.02300, 1000 = 0.01600, 2500 = 0.01100, 10000 = 0.01000 (USD); Case/Package: 0805; Resistance: 15kR; Tolerance: 1%; ComponentLink1URL: http://datasheet.octopart.com/RT0805FRE1015KL-Yageo-datasheet-86813807.pdf; ComponentLink1Description: http://datasheet.octopart.com/RT0805FRE1015KL-Yageo-datasheet-86813807.pdf
footprint Yageo 0805
pins: 1 83, 2 84

## RT0805FRE1310KL
designator R?, comment 10kR
Res Thin Film 0805 10K Ohm 1% 0.125W(1/8W) ±50ppm/C Molded SMD Paper T/R; Manufacturer: Yageo; Manufacturer Part Number: RT0805FRE1310KL; catagory: resister; Supplier 1: Mouser; Supplier Part Number 1: 603-RT0805FRE1310KL; RoHS: No; Stock 1: 7132; Pricing 1: 1 = 0.12000, 10 = 0.06400, 100 = 0.02300, 1000 = 0.01600, 2500 = 0.01100, 10000 = 0.01000 (USD); Case/Package: 0805; Min Operating Temperature: -55°C; Max Operating Temperature: 125°C; Packaging: Tape and Reel; Resistance: 10kR; Tolerance: 1%; Composition: Thin Film; Military Standard: Not; Length: 2mm; Depth: 1.25mm; ComponentLink1URL: http://components.arrow.com/part/dataview/0323_03828670?src-supplier=Arrow+Europe; ComponentLink1Description: http://components.arrow.com/part/dataview/0323_03828670?src-supplier=Arrow+Europe
footprint Yageo 0805
pins: 1 83, 2 84

## RT0805FRE07200RL
designator R?, comment 200R
Res Thin Film 0805 200 Ohm 1% 0.125W(1/8W) ±50ppm/C Pad SMD T/R; Manufacturer: Yageo; Manufacturer Part Number: RT0805FRE07200RL; Power Rating: 125mW; Voltage Rating: 150V; Temperature Coefficient: 50ppm/°C; catagory: resister; Supplier 1: Mouser; Supplier Part Number 1: 603-RT0805FRE07200RL; Stock 1: 11186; Pricing 1: 1 = 0.12000, 10 = 0.06400, 100 = 0.02300, 1000 = 0.01600, 5000 = 0.01100, 10000 = 0.01000 (USD); Case/Package: 0805; Weight: 0.000194oz; Case Code (Metric): 2012; Case Code (Imperial): 0805; Contact Plating: Tin; Min Operating Temperature: -55°C; Max Operating Temperature: 125°C; Package Quantity: 5000; Packaging: Tape and Reel; Resistance: 200R; Tolerance: 1%; Composition: Thin Film; Number of Terminations: 2; Termination: SMD/SMT; Military Standard: Not; Max Power Dissipation: 125mW; Voltage Rating (DC): 150V; Length: 2mm; Height: 0.024inch; Width: 0.049inch; Depth: 1.25mm; Lead Free: Lead Free; ComponentLink1URL: https://datasheet.ciiva.com/2561/pyu-rt-1-to-0-05-rohs-l-5-2561043.pdf?src-supplier=Digi-Key; ComponentLink1Description: https://datasheet.ciiva.com/2561/pyu-rt-1-to-0-05-rohs-l-5-2561043.pdf?src-supplier=Digi-Key; ComponentLink2URL: https://datasheet.ciiva.com/12810/pyu-rt-1-to-0-05-rohs-l-4-12810331.pdf?src-supplier=Mouser; ComponentLink2Description: https://datasheet.ciiva.com/12810/pyu-rt-1-to-0-05-rohs-l-4-12810331.pdf?src-supplier=Mouser; ComponentLink3URL: http://datasheet.octopart.com/RT0805FRE07200RL-Yageo-datasheet-86813807.pdf; ComponentLink3Description: http://datasheet.octopart.com/RT0805FRE07200RL-Yageo-datasheet-86813807.pdf
footprint 200R
pins: 1 83, 2 84

## RT0805FRE07432RL
designator R?, comment 432R
Res Thin Film 0805 432 Ohm 1% 1/8W ±50ppm/°C Molded SMD SMD Paper T/R; Manufacturer: Yageo; Manufacturer Part Number: RT0805FRE07432RL; Power Rating: 125mW; Voltage Rating: 150V; catagory: resister; Supplier 1: Mouser; Supplier Part Number 1: 603-RT0805FRE07432RL; Stock 1: 2636; Pricing 1: 1 = 0.12000, 10 = 0.06400, 100 = 0.02300, 1000 = 0.01600, 5000 = 0.01100, 10000 = 0.01000 (USD); Case/Package: 0805; Case Code (Metric): 2012; Case Code (Imperial): 0805; Contact Plating: Tin; Min Operating Temperature: -55°C; Max Operating Temperature: 125°C; Resistance: 432R; Tolerance: 1%; Packaging: Tape and Reel; Composition: Thin Film; Termination: SMD/SMT; Temperature Coefficient: 50ppm/°C; Voltage Rating (DC): 150V; Length: 2mm; Height: 500um; Width: 1.25mm; Radiation Hardening: No; Lead Free: Lead Free; ComponentLink1URL: https://datasheet.ciiva.com/12703/pyu-rt-1-to-0-05-rohs-l-4-12703656.pdf?src-supplier=Mouser; ComponentLink1Description: https://datasheet.ciiva.com/12703/pyu-rt-1-to-0-05-rohs-l-4-12703656.pdf?src-supplier=Mouser; ComponentLink2URL: http://datasheet.octopart.com/RT0805FRE07432RL-Yageo-datasheet-86813807.pdf; ComponentLink2Description: http://datasheet.octopart.com/RT0805FRE07432RL-Yageo-datasheet-86813807.pdf
footprint 432R
pins: 1 83, 2 84

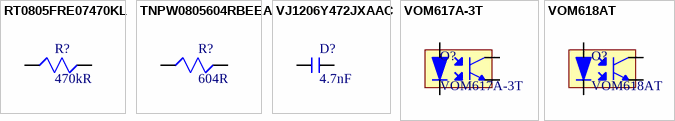
[diagram p1: symbols RT0805FRE07470KL to VOM618AT]

## RT0805FRE07470KL
designator R?, comment 470kR
High Precision-High Stability Chip Resistor Thin Film 0805 470kOhm 1% Paper T/R; Manufacturer: Yageo; Manufacturer Part Number: RT0805FRE07470KL; Power Rating: 125mW; Voltage Rating: 150V; Temperature Coefficient: 50ppm/°C; catagory: resister; Supplier 1: Mouser; Supplier Part Number 1: 603-RT0805FRE07470KL; Stock 1: 10369; Pricing 1: 1 = 0.12000, 10 = 0.06400, 100 = 0.02300, 1000 = 0.01600, 5000 = 0.01100, 10000 = 0.01000 (USD); Case/Package: 0805; Number of Pins: 2; Case Code (Metric): 2012; Case Code (Imperial): 0805; Min Operating Temperature: -55°C; Max Operating Temperature: 125°C; Resistance: 470kR; Tolerance: 1%; Packaging: Tape and Reel; Composition: Thin Film; Termination: SMD/SMT; Military Standard: Not; Voltage Rating (DC): 150V; Length: 2mm; Depth: 1.25mm; Width: 1.25mm; REACH SVHC: No SVHC; Lead Free: Lead Free; ComponentLink1URL: https://datasheet.ciiva.com/7942/1392914-7942149.pdf?src-supplier=Element14; ComponentLink1Description: https://datasheet.ciiva.com/7942/1392914-7942149.pdf?src-supplier=Element14; ComponentLink2URL: http://datasheet.octopart.com/RT0805FRE07470KL-Yageo-datasheet-10915759.pdf?src-supplier=Element14; ComponentLink2Description: http://datasheet.octopart.com/RT0805FRE07470KL-Yageo-datasheet-10915759.pdf?src-supplier=Element14; ComponentLink3URL: http://datasheet.octopart.com/RT0805FRE07470KL-Yageo-datasheet-86813807.pdf; ComponentLink3Description: http://datasheet.octopart.com/RT0805FRE07470KL-Yageo-datasheet-86813807.pdf; ComponentLink4URL: http://datasheet.octopart.com/RT0805FRE07470KL-Yageo-datasheet-8324589.pdf?src-supplier=Farnell; ComponentLink4Description: http://datasheet.octopart.com/RT0805FRE07470KL-Yageo-datasheet-8324589.pdf?src-supplier=Farnell
footprint Yageo 0805
pins: 1 83, 2 84